# Altium schematic symbol library PCA9548APW.SchLib: 1 symbol
Pins are listed as number, name and electrical type; pins without a type are passive.

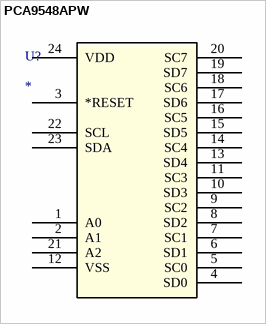
[diagram p0: symbol PCA9548APW]

## PCA9548APW
designator U?
No Description Available; Mfr_Name: NXP; Digi-Key_Part_Number_6: 296-33511-5-ND; Digi-Key_Part_Number_5: 2156-PCA9548APW-ND; Digi-Key_Part_Number_1: 568-10297-1-ND; Digi-Key_Part_Number_2: 568-10297-2-ND; Digi-Key_Part_Number_3: 568-10297-6-ND; Digi-Key_Part_Number_4: 568-3384-5-ND; RefDes: RefDes; Type: Type
footprint SOT355-1_NXP
pins: 1 A0, 2 A1, 3 *RESET, 4 SD0, 5 SC0, 6 SD1, 7 SC1, 8 SD2, 9 SC2, 10 SD3, 11 SC3, 12 VSS, 13 SD4, 14 SC4, 15 SD5, 16 SC5, 17 SD6, 18 SC6, 19 SD7, 20 SC7, 21 A2, 22 SCL, 23 SDA, 24 VDD